# Altium schematic symbol library BAT60J.SchLib: 1 symbol
Pins are listed as number, name and electrical type; pins without a type are passive.

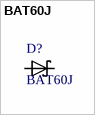
[diagram p0: symbol BAT60J]

## BAT60J
designator D?
MF: STMicroelectronics; Package: None; MP: BAT60J; SnapEDA_Link: https://www.snapeda.com/parts/BAT60J/STMicroelectronics/view-part/?ref=snap; Availability: Unavailable; Price: None; Value: *
footprint *SOD323_ST_BAT60J(Primary)
pins: A, C